# Altium integrated library Texas Instruments Interface 1394.IntLib: 47 symbols (part 16 of 17)
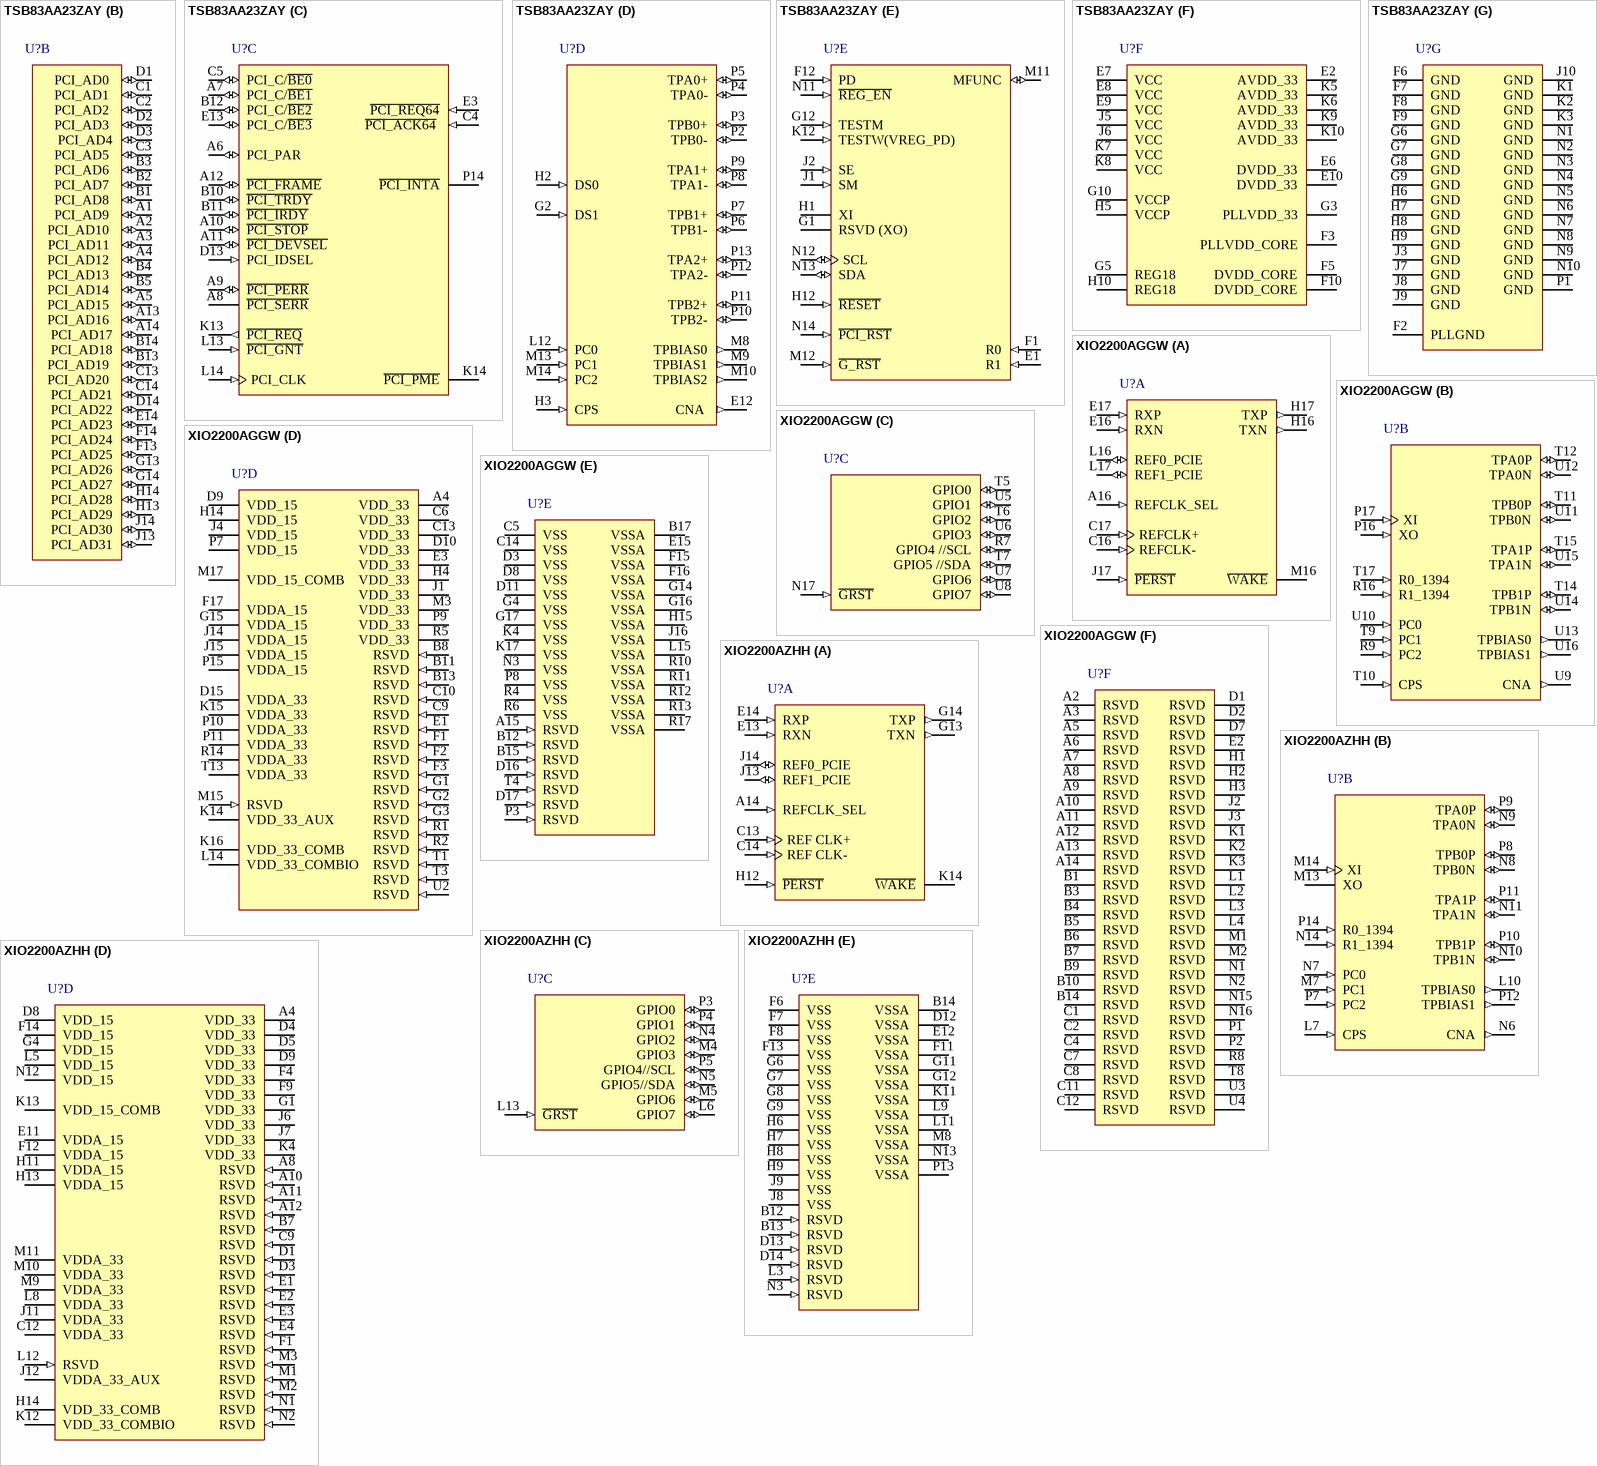
[diagram p26: symbols TSB83AA23ZAY to XIO2200AZHH]

## XIO2200AGGW
designator U?
PCI Express to PCI Bus Translation Bridge with 1394a OHCI and Two-Port PHY, 176-Pin BGA MICROSTAR (GGW); PartNumber: XIO2200AGGW; Manufacturer: Texas Instruments; SubFamily: 1394 Integrated Device; Speed(Max)(Mbps): 400; FIFO(kb): 9; 1394a: TRUE; Rating: Catalog; DatasheetVersion: SCPS154C; PackageVersion: revE, Jul-2003; PackageReference: GGW176; PackageDescription: 176-Ball Plastic Ball Grid Array, 15 x 15 mm Body, 0.8 mm Pitch; Mounting Technology: Surface Mount; ComponentLink1Description: Datasheet; ComponentLink1URL: http://www.ti.com/general/docs/lit/getliterature.tsp?genericPartNumber=XIO2200A&fileType=pdf; ComponentLink2Description: Package Specification; ComponentLink2URL: http://www.ti.com/litv/pdf/mpbg026e
footprint TI-GGW176 (BGA, 176-Leads, Body 15x15mm, Pitch 0.8mm)
part A pins: A16 REFCLK_SEL (in) "Reference clock select. This terminal selects the reference clock input. 0 = 100-MHz differential common reference clock used ,1 = 125-MHz single-ended reference clock used", C16 REFCLK- (in) "Reference clock. REFCLK+ and REFCLK- comprise the differential input pair for the 100-MHz system reference clock. [see datasheet]", C17 REFCLK+ (in) "Reference clock. REFCLK+ and REFCLK- comprise the differential input pair for the 100-MHz system reference clock. [see datasheet]", E16 RXN (in) "High-speed receive pair. RXP and RXN comprise the differential receive pair for the single PCI Express lane supported.", E17 RXP (in) "High-speed receive pair. RXP and RXN comprise the differential receive pair for the single PCI Express lane supported.", H16 TXN (out) "High-speed transmit pair. TXP and TXN comprise the differential transmit pair for the single PCI Express lane supported.", H17 TXP (out) "High-speed transmit pair. TXP and TXN comprise the differential transmit pair for the single PCI Express lane supported.", J17 ~{PERST} (in) "PCI Express reset input. The P\E\R\S\T\ signal identifies when the system power is stable and generates an internal power-on reset.Note: The P\E\R\S\T\ input buffer has hysteresis.", L16 REF0_PCIE (io) "External reference resistor + and - terminals for setting TX driver current. An external resistor is connected between terminals L16 and L17.", L17 REF1_PCIE (io) "External reference resistor + and - terminals for setting TX driver current. An external resistor is connected between terminals L16 and L17.", M16 ~{WAKE} (oc) "Wake is an active low signal that is driven low to reactivate the PCI Express link hierarchy’s main power rails and reference clocks. [see datasheet]"
part B pins: P16 XO (in) "Crystal oscillator inputs. These terminals connect to a 24.576-MHz parallel resonant fundamental mode crystal. [see datasheet]", P17 XI (in) "Crystal oscillator inputs. These terminals connect to a 24.576-MHz parallel resonant fundamental mode crystal. [see datasheet]", R9 PC2 (in) "Power class programming inputs.  On hardware reset, these inputs set the default value of the power class indicated during self-ID. [see datasheet]", R16 R1_1394 (in) "Current-setting resistor terminals. These terminals are connected to an external resistance to set the internal operating currents and cable driver output currents.A resistance of 6. [see datasheet]", T9 PC1 (in) "Power class programming inputs. On hardware reset, these inputs set the default value of the power class indicated during self-ID. [see datasheet]", T10 CPS (in) "Cable power status input.  This terminal is normally connected to cable power through a 400-kohm resistor. [see datasheet]", T11 TPB0P (io) "Twisted-pair cable B differential signal terminals. [see datasheet]", T12 TPA0P (io) "Twisted-pair cable A differential signal terminals. [see datasheet]", T14 TPB1P (io) "Twisted-pair cable B differential signal terminals. [see datasheet]", T15 TPA1P (io) "Twisted-pair cable A differential signal terminals. [see datasheet]", T17 R0_1394 (in) "Current-setting resistor terminals. These terminals are connected to an external resistance to set the internal operating currents and cable driver output currents. A resistance of 6. [see datasheet]", U9 CNA (out) "Cable not active. This terminal is asserted high when there are no ports receiving incoming bias voltage. [see datasheet]", U10 PC0 (in) "Power class programming inputs. On hardware reset, these inputs set the default value of the power class indicated during self-ID. [see datasheet]", U11 TPB0N (io) "Twisted-pair cable B differential signal terminals. [see datasheet]", U12 TPA0N (io) "Twisted-pair cable A differential signal terminals. [see datasheet]", U13 TPBIAS0 (out) "Twisted-pair bias output. This provides the 1. [see datasheet]", U14 TPB1N (io) "Twisted-pair cable B differential signal terminals. [see datasheet]", U15 TPA1N (io) "Twisted-pair cable A differential signal terminals. [see datasheet]", U16 TPBIAS1 (out) "Twisted-pair bias output. This provides the 1. [see datasheet]"
part C pins: N17 ~{GRST} (in) "Global reset input. Asynchronously resets all logic in device, including sticky bits and power management state machines. [see datasheet]", R7 GPIO4 //SCL (io) "GPIO4 or serial-bus clock. This terminal functions as serial-bus clock if a pullup resistor is detected on SDA. [see datasheet]", T5 GPIO0 (io) "General-purpose I/O 0. This terminal functions as a GPIO controlled by bit 0 (GPIO0_DIR) in the GPIO control register (see Section 4.59). [see datasheet]", T6 GPIO2 (io) "General-purpose I/O 2. This terminal functions as a GPIO controlled by bit 2 (GPIO2_DIR) in the GPIO control register (see Section 4.59). [see datasheet]", T7 GPIO5 //SDA (io) "GPIO5 or serial-bus data. This terminal functions as serial-bus data if a pullup resistor is detected on SDA. [see datasheet]", U5 GPIO1 (io) "General-purpose I/O 1. This terminal functions as a GPIO controlled by bit 1 (GPIO1_DIR) in the GPIO control register (see Section 4.59). [see datasheet]", U6 GPIO3 (io) "General-purpose I/O 3. This terminal functions as a GPIO controlled by bit 3 (GPIO3_DIR) in the GPIO control register (see Section 4.59). [see datasheet]", U7 GPIO6 (io) "General-purpose I/O 6. This terminal functions as a GPIO controlled by bit 6 (GPIO6_DIR) in the GPIO control register (see Section 4.59). [see datasheet]", U8 GPIO7 (io) "General-purpose I/O 7. This terminal functions as a GPIO controlled by bit 7 (GPIO7_DIR) in the GPIO control register (see Section 4.59). [see datasheet]"
part D pins: A4 VDD_33 (power) "3.3-V digital I/O power terminals", B8 RSVD (in) "Must be connected to VDD_33.", B11 RSVD (in) "Must be connected to VDD_33.", B13 RSVD (in) "Must be connected to VDD_33.", C6 VDD_33 (power) "3.3-V digital I/O power terminals", C9 RSVD (in) "Must be connected to VDD_33", C10 RSVD (in) "Must be connected to VDD_33", C13 VDD_33 (power) "3.3-V digital I/O power terminals", D9 VDD_15  (power) "1.5-V digital core power terminals", D10 VDD_33 (power) "3.3-V digital I/O power terminals", D15 VDDA_33 (power) "3.3-V analog power terminals", E1 RSVD (in) "Must be connected to VDD_33", E3 VDD_33 (power) "3.3-V digital I/O power terminals", F1 RSVD (in) "Must be connected to VDD_33", F2 RSVD (in) "Must be connected to VDD_33", F3 RSVD (in) "Must be connected to VDD_33", F17 VDDA_15 (power) "1.5-V analog power terminal", G1 RSVD (in) "Must be connected to VDD_33", G2 RSVD (in) "Must be connected to VDD_33", G3 RSVD (in) "Must be connected to VDD_33", G15 VDDA_15 (power) "1.5-V analog power terminal", H4 VDD_33 (power) "3.3-V digital I/O power terminals", H14 VDD_15 (power) "1.5-V digital core power terminals", J1 VDD_33 (power) "3.3-V digital I/O power terminals", J4 VDD_15 (power) "1.5-V digital core power terminals", J14 VDDA_15 (power) "1.5-V analog power terminal", J15 VDDA_15 (power) "1.5-V analog power terminal", K14 VDD_33_AUX (power) "3.3-V auxiliary power terminalNote: This terminal is connected to VSS through a pulldown resistor if no auxiliary supply is present.", K15 VDDA_33 (power) "3.3-V analog power terminals", K16 VDD_33_COMB (power) "Internally-combined 3.3-V main and VAUX power output for external bypass capacitor filtering. Supplies all internal 3.3-V circuitry powered by VAUX. [see datasheet]", L14 VDD_33_COMBIO (power) "Internally-combined 3.3-V main and VAUX power output for external bypass capacitor filtering. Supplies all internal 3.3-V input/output circuitry powered by VAUX. [see datasheet]", M3 VDD_33 (power) "3.3-V digital I/O power terminals", M15 RSVD (in) "If the VAUX supply is present, connect this terminal to VDD_33_AUX.If the VAUX supply is not present, connect this terminal to VDD_33.", M17 VDD_15_COMB (power) "Internally-combined 1.5-V main and VAUX power output for external bypass capacitor filtering. Supplies all internal 1.5-V circuitry powered by VAUX. [see datasheet]", P7 VDD_15 (power) "1.5-V digital core power terminals", P9 VDD_33 (power) "3.3-V digital I/O power terminals", P10 VDDA_33 (power) "3.3-V analog power terminals", P11 VDDA_33 (power) "3.3-V analog power terminals", P15 VDDA_15 (power) "1.5-V analog power terminal", R1 RSVD (in) "Must be connected to VDD_33", R2 RSVD (in) "Must be connected to VDD_33", R5 VDD_33 (power) "3.3-V digital I/O power terminals", R14 VDDA_33 (power) "3.3-V analog power terminals", T1 RSVD (in) "Must be connected to VDD_33", T3 RSVD (in) "Must be connected to VDD_33", T13 VDDA_33 (power) "3.3-V analog power terminals", U2 RSVD (in) "Must be connected to VDD_33"
part E pins: A15 RSVD (in) "Must be connected to VSS", B12 RSVD (in) "Must be connected to VDD_33.", B15 RSVD (in) "Must be connected to VSS", B17 VSSA (power) "Analog ground terminal.", C5 VSS (power) "Digital ground terminals", C14 VSS (power) "Digital ground terminals", D3 VSS (power) "Digital ground terminals", D8 VSS  (power) "Digital ground terminals", D11 VSS (power) "Digital ground terminals", D16 RSVD (in) "Must be connected to VSS", D17 RSVD (in) "Must be connected to VSS", E15 VSSA (power) "Analog ground terminal.", F15 VSSA (power) "Analog ground terminal.", F16 VSSA (power) "Analog ground terminal.", G4 VSS (power) "Digital ground terminals", G14 VSSA (power) "Analog ground terminal.", G16 VSSA (power) "Analog ground terminal.", G17 VSS (power) "Digital ground terminals", H15 VSSA (power) "Analog ground terminal.", J16 VSSA (power) "Analog ground terminal.", K4 VSS (power) "Digital ground terminals", K17 VSS (power) "Digital ground terminals", L15 VSSA (power) "Analog ground terminal.", N3 VSS (power) "Digital ground terminals", P3 RSVD (in) "Must be connected to VSS", P8 VSS (power) "Digital ground terminals", R4 VSS (power) "Digital ground terminals", R6 VSS (power) "Digital ground terminals", R10 VSSA (power) "Analog ground terminal.", R11 VSSA (power) "Analog ground terminal.", R12 VSSA (power) "Analog ground terminal.", R13 VSSA (power) "Analog ground terminal.", R17 VSSA (power) "Analog ground terminal.", T4 RSVD (in) "Must be connected to VSS"
part F pins: A2 RSVD "Reserved, do not connect to external signals.", A3 RSVD "Reserved, do not connect to external signals.", A5 RSVD "Reserved, do not connect to external signals.", A6 RSVD "Reserved, do not connect to external signals.", A7 RSVD "Reserved, do not connect to external signals.", A8 RSVD "Reserved, do not connect to external signals.", A9 RSVD "Reserved, do not connect to external signals.", A10 RSVD "Reserved, do not connect to external signals.", A11 RSVD "Reserved, do not connect to external signals.", A12 RSVD "Reserved, do not connect to external signals.", A13 RSVD "Reserved, do not connect to external signals.", A14 RSVD "Reserved, do not connect to external signals.", B1 RSVD "Reserved, do not connect to external signals.", B3 RSVD "Reserved, do not connect to external signals.", B4 RSVD "Reserved, do not connect to external signals.", B5 RSVD "Reserved, do not connect to external signals.", B6 RSVD "Reserved, do not connect to external signals.", B7 RSVD "Reserved, do not connect to external signals.", B9 RSVD "Reserved, do not connect to external signals.", B10 RSVD "Reserved, do not connect to external signals.", B14 RSVD "Reserved, do not connect to external signals.", C1 RSVD "Reserved, do not connect to external signals.", C2 RSVD "Reserved, do not connect to external signals.", C4 RSVD "Reserved, do not connect to external signals.", C7 RSVD "Reserved, do not connect to external signals.", C8 RSVD "Reserved, do not connect to external signals.", C11 RSVD "Reserved, do not connect to external signals.", C12 RSVD "Reserved, do not connect to external signals.", D1 RSVD "Reserved, do not connect to external signals.", D2 RSVD "Reserved, do not connect to external signals.", D7 RSVD "Reserved, do not connect to external signals.", E2 RSVD "Reserved, do not connect to external signals.", H1 RSVD "Reserved, do not connect to external signals.", H2 RSVD "Reserved, do not connect to external signals.", H3 RSVD "Reserved, do not connect to external signals.", J2 RSVD "Reserved, do not connect to external signals.", J3 RSVD "Reserved, do not connect to external signals.", K1 RSVD "Reserved, do not connect to external signals.", K2 RSVD "Reserved, do not connect to external signals.", K3 RSVD "Reserved, do not connect to external signals.", L1 RSVD "Reserved, do not connect to external signals.", L2 RSVD "Reserved, do not connect to external signals.", L3 RSVD "Reserved, do not connect to external signals.", L4 RSVD "Reserved, do not connect to external signals.", M1 RSVD "Reserved, do not connect to external signals.", M2 RSVD "Reserved, do not connect to external signals.", N1 RSVD "Reserved, do not connect to external signals.", N2 RSVD "Reserved, do not connect to external signals.", N15 RSVD "Reserved, do not connect to external signals.", N16 RSVD "Reserved, do not connect to external signals.", P1 RSVD "Reserved, do not connect to external signals.", P2 RSVD "Reserved, do not connect to external signals.", R8 RSVD "Reserved, do not connect to external signals.", T8 RSVD "Reserved, do not connect to external signals.", U3 RSVD "Reserved, do not connect to external signals.", U4 RSVD "Reserved, do not connect to external signals."

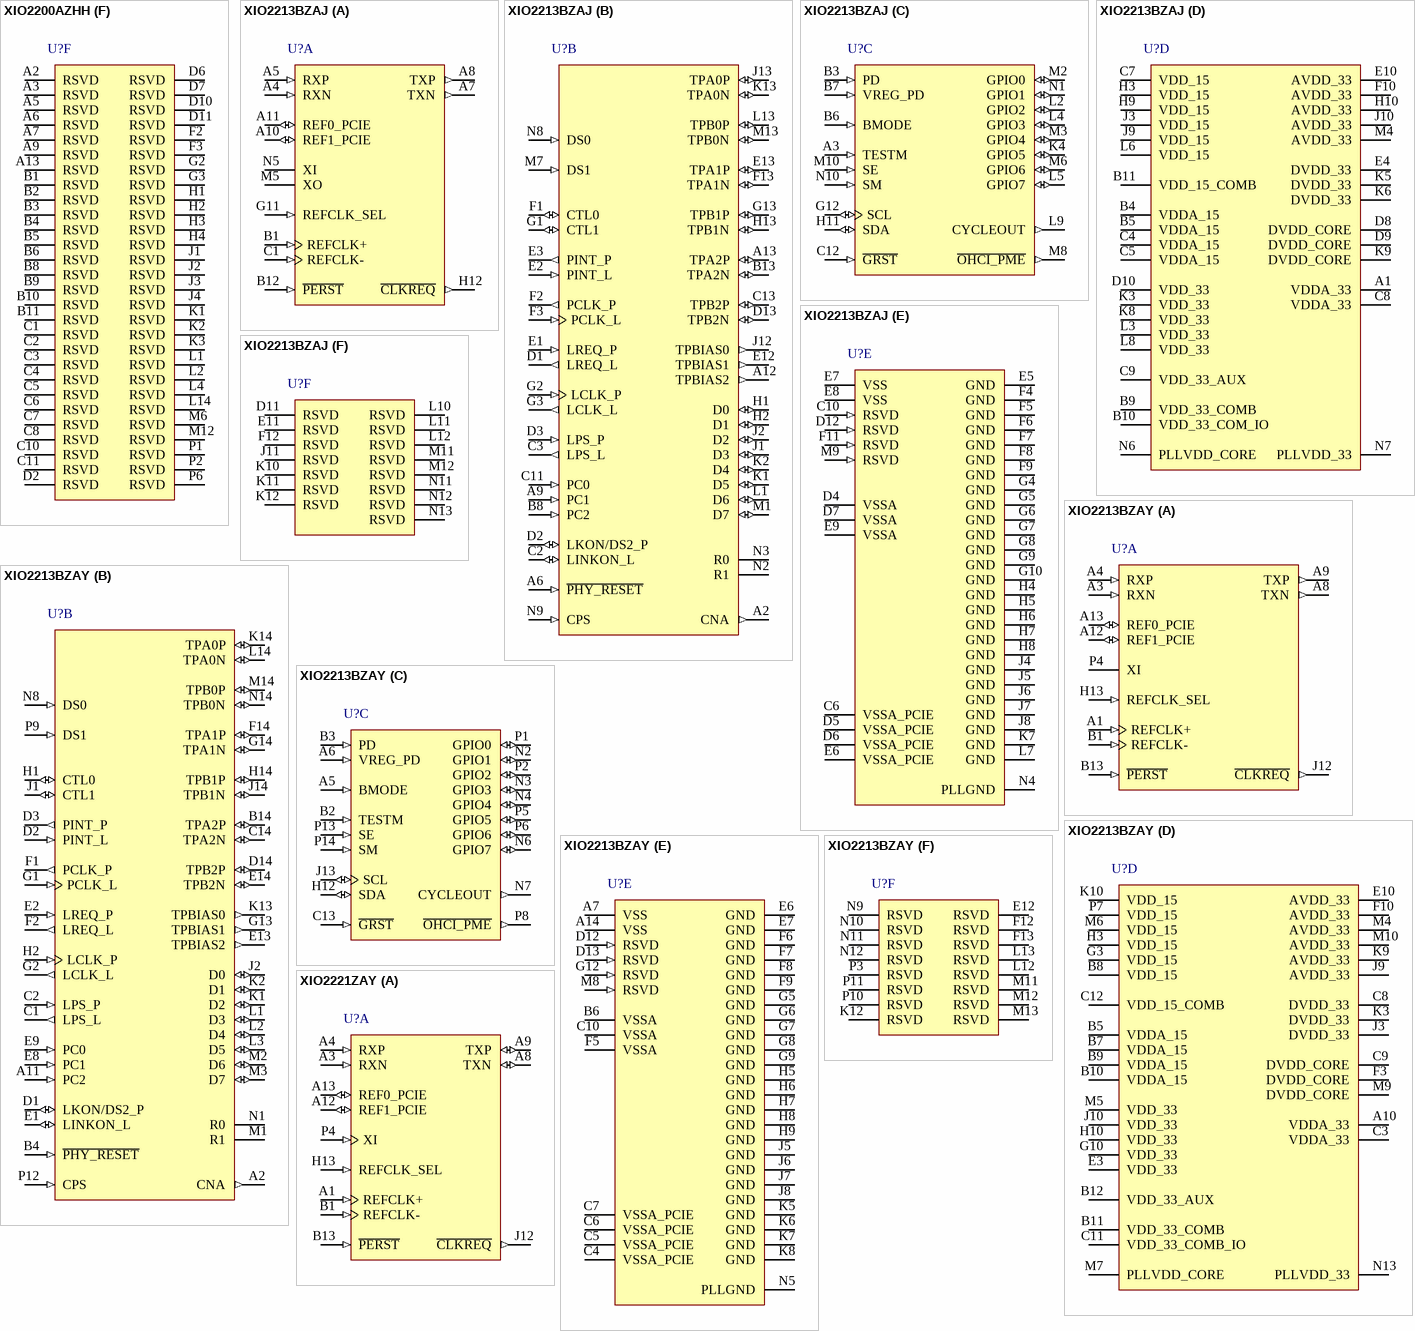
[diagram p10: symbols XIO2200AZHH to XIO2221ZAY]

## XIO2200AZHH
designator U?
PCI Express to PCI Bus Translation Bridge with 1394a OHCI and Two-Port PHY, 175-Pin BGA MICROSTAR (ZHH), Green (RoHS & no Sb/Br); PartNumber: XIO2200AZHH; Manufacturer: Texas Instruments; SubFamily: 1394 Integrated Device; Speed(Max)(Mbps): 400; FIFO(kb): 9; 1394a: TRUE; Rating: Catalog; DatasheetVersion: SCPS154C; PackageVersion: revE, Feb-2011; PackageReference: ZHH175; PackageDescription: 175-Ball Plastic Ball Grid Array, 12 x 12 mm Body, 0.8 mm Pitch; Mounting Technology: Surface Mount; ComponentLink1Description: Datasheet; ComponentLink1URL: http://www.ti.com/general/docs/lit/getliterature.tsp?genericPartNumber=XIO2200A&fileType=pdf; ComponentLink2Description: Package Specification; ComponentLink2URL: http://www.ti.com/litv/pdf/mpbg758b
footprint TI-ZHH175 (BGA, 175-Leads, Body 12x12mm, Pitch 0.8mm)
part A pins: A14 REFCLK_SEL (in) "Reference clock select.This terminal selects the reference clock input. 0 = 100-MHz differential common reference clock used 1 = 125-MHz single-ended reference clock used", C13 REF CLK+ (in) "Reference clock.REFCLK+ and REFCLK- comprise the differential input pair for the 100-MHz system reference clock. [see datasheet]", C14 REF CLK- (in) "Reference clock.REFCLK+ and REFCLK- comprise the differential input pair for the 100-MHz system reference clock. [see datasheet]", E13 RXN (in) "High-speed receive pair. RXP and RXN comprise the differential receive pair for the single PCI Express lane supported.", E14 RXP (in) "High-speed receive pair. RXP and RXN comprise the differential receive pair for the single PCI Express lane supported.", G13 TXN (out) "High-speed transmit pair. TXP and TXN comprise the differential transmit pair for the single PCI Express lane supported.", G14 TXP (out) "High-speed transmit pair. TXP and TXN comprise the differential transmit pair for the single PCI Express lane supported.", H12 ~{PERST} (in) "PCI Express reset input. The PERST signal identifies when the system power is stable and generates an internal power-on reset. Note: The P\E\R\S\T\ input buffer has hysteresis.", J13 REF1_PCIE (io) "External reference resistor + and - terminals for setting TX driver current. An external resistor is connected between terminals L16 and L17.", J14 REF0_PCIE (io) "External reference resistor + and - terminals for setting TX driver current. An external resistor is connected between terminals L16 and L17.", K14 ~{WAKE} (oc) "Wake is an active low signal that is driven low toreactivate the PCI Express link hierarchy’s main power rails and reference clocks."
part B pins: L7 CPS (in) "Cable power status input. This terminal is normally connected to cable power through a 400-kohm resistor. [see datasheet]", L10 TPBIAS0 (out) "Twisted-pair bias output. This provides the 1. [see datasheet]", M7 PC1 (in) "Power class programming inputs. On hardware reset, these inputs set the default value of the power class indicated during self-ID. [see datasheet]", M13 XO "Crystal oscillator inputs. These terminals connect to a 24.576-MHz parallel resonant fundamental mode crystal. [see datasheet]", M14 XI (in) "Crystal oscillator inputs. These terminals connect to a 24.576-MHz parallel resonant fundamental mode crystal. [see datasheet]", N6 CNA (out) "Cable not active. This terminal is asserted high when there are no ports receiving incoming bias voltage. [see datasheet]", N7 PC0 (in) "Power class programming inputs. On hardware reset, these inputs set the default value of the power class indicated during self-ID. [see datasheet]", N8 TPB0N (io) "Twisted-pair cable B differential signal terminals. [see datasheet]", N9 TPA0N (io) "Twisted-pair cable A differential signal terminals. [see datasheet]", N10 TPB1N (io) "Twisted-pair cable B differential signal terminals. [see datasheet]", N11 TPA1N (io) "Twisted-pair cable A differential signal terminals. [see datasheet]", N14 R1_1394 (in) "Current-setting resistor terminals. These terminals are connected to an external resistance to set the internal operating currents and cable driver output currents. A resistance of 6. [see datasheet]", P7 PC2 (in) "Power class programming inputs. On hardware reset, these inputs set the default value of the power class indicated during self-ID. [see datasheet]", P8 TPB0P (io) "Twisted-pair cable B differential signal terminals. [see datasheet]", P9 TPA0P (io) "Twisted-pair cable A differential signal terminals. [see datasheet]", P10 TPB1P (io) "Twisted-pair cable B differential signal terminals. [see datasheet]", P11 TPA1P (io) "Twisted-pair cable A differential signal terminals. [see datasheet]", P12 TPBIAS1 (out) "Twisted-pair bias output. This provides the 1. [see datasheet]", P14 R0_1394 (in) "Current-setting resistor terminals. These terminals are connected to an external resistance to set the internal operating currents and cable driver output currents. A resistance of 6. [see datasheet]"
part C pins: L6 GPIO7 (io) "General-purpose I/O 7. This terminal functions as a GPIO controlled by bit 7 (GPIO7_DIR) in the GPIO control register (see Section 4.59). [see datasheet]", L13 ~{GRST} (in) "Global reset input. Asynchronously resets all logic in device, including sticky bits and power management state machines. [see datasheet]", M4 GPIO3 (io) "General-purpose I/O 3. This terminal functions as a GPIO controlled by bit 3 (GPIO3_DIR) in the GPIO control register (see Section 4.59). [see datasheet]", M5 GPIO6 (io) "General-purpose I/O 6. This terminal functions as a GPIO controlled by bit 6 (GPIO6_DIR) in the GPIO control register (see Section 4.59). [see datasheet]", N4 GPIO2 (io) "General-purpose I/O 2. This terminal functions as a GPIO controlled by bit 2 (GPIO2_DIR) in the GPIO control register (see Section 4.59). [see datasheet]", N5 GPIO5//SDA (io) "GPIO5 or serial-bus data. This terminal functions as serial-bus data if a pullup resistor is detected on SDA. [see datasheet]", P3 GPIO0 (io) "General-purpose I/O 0. This terminal functions as a GPIO controlled by bit 0 (GPIO0_DIR) in the GPIO control register (see Section 4.59). [see datasheet]", P4 GPIO1 (io) "General-purpose I/O 1. This terminal functions as a GPIO controlled by bit 1 (GPIO1_DIR) in the GPIO control register (see Section 4.59). [see datasheet]", P5 GPIO4//SCL (io) "GPIO4 or serial-bus clock. This terminal functions as serial-bus clock if a pullup resistor is detected on SDA. [see datasheet]"
part D pins: A4 VDD_33 (power) "3.3-V digital I/O power terminals", A8 RSVD (in) "Must be connected to VDD_33.", A10 RSVD (in) "Must be connected to VDD_33.", A11 RSVD (in) "Must be connected to VDD_33.", A12 RSVD (in) "Must be connected to VDD_33.", B7 RSVD (in) "Must be connected to VDD_33.", C9 RSVD (in) "Must be connected to VDD_33.", C12 VDDA_33 (power) "3.3-V analog power terminals", D1 RSVD (in) "Must be connected to VDD_33.", D3 RSVD (in) "Must be connected to VDD_33.", D4 VDD_33 (power) "3.3-V digital I/O power terminals", D5 VDD_33 (power) "3.3-V digital I/O power terminals", D8 VDD_15 (power) "1.5-V digital core power terminals", D9 VDD_33 (power) "3.3-V digital I/O power terminals", E1 RSVD (in) "Must be connected to VDD_33.", E2 RSVD (in) "Must be connected to VDD_33.", E3 RSVD (in) "Must be connected to VDD_33.", E4 RSVD (in) "Must be connected to VDD_33.", E11 VDDA_15 (power) "1.5-V analog power terminal", F1 RSVD (in) "Must be connected to VDD_33.", F4 VDD_33 (power) "3.3-V digital I/O power terminals", F9 VDD_33 (power) "3.3-V digital I/O power terminals", F12 VDDA_15 (power) "1.5-V analog power terminal", F14 VDD_15 (power) "1.5-V digital core power terminals", G1 VDD_33 (power) "3.3-V digital I/O power terminals", G4 VDD_15 (power) "1.5-V digital core power terminals", H11 VDDA_15 (power) "1.5-V analog power terminal", H13 VDDA_15 (power) "1.5-V analog power terminal", H14 VDD_33_COMB "Internally-combined 3.3-V main and VAUX power output for external bypass capacitor filtering. Supplies all internal 3.3-V circuitry powered by VAUX. [see datasheet]", J6 VDD_33 (power) "3.3-V digital I/O power terminals", J7 VDD_33 (power) "3.3-V digital I/O power terminals", J11 VDDA_33 (power) "3.3-V analog power terminals", J12 VDDA_33_AUX (power) "3.3-V auxiliary power terminal", K4 VDD_33 (power) "3.3-V digital I/O power terminals", K12 VDD_33_COMBIO "Internally-combined 3.3-V main and VAUX power output for external bypass capacitor filtering. Supplies all internal 3.3-V input/output circuitry powered by VAUX. [see datasheet]", K13 VDD_15_COMB "Internally-combined 1.5-V main and VAUX power output for external bypass capacitor filtering. Supplies all internal 1.5-V circuitry powered by VAUX. [see datasheet]", L5 VDD_15 (power) "1.5-V digital core power terminals", L8 VDDA_33 (power) "3.3-V analog power terminals", L12 RSVD (in) "If the VAUX supply is present, connect this terminal to VDD_33_AUX. If the VAUX supply is not present, connect this terminal to VDD_33.", M1 RSVD (in) "Must be connected to VDD_33.", M2 RSVD (in) "Must be connected to VDD_33.", M3 RSVD (in) "Must be connected to VDD_33.", M9 VDDA_33 (power) "3.3-V analog power terminals", M10 VDDA_33 (power) "3.3-V analog power terminals", M11 VDDA_33 (power) "3.3-V analog power terminals", N1 RSVD (in) "Must be connected to VDD_33.", N2 RSVD (in) "Must be connected to VDD_33.", N12 VDD_15 (power) "1.5-V analog power terminal"
part E pins: B12 RSVD (in) "Must be connected to VSS.", B13 RSVD (in) "Must be connected to VSS.", B14 VSSA (power) "Analog ground terminals", D12 VSSA (power) "Analog ground terminals", D13 RSVD (in) "Must be connected to VSS.", D14 RSVD (in) "Must be connected to VSS.", E12 VSSA (power) "Analog ground terminals", F6 VSS (power) "Digital ground terminals", F7 VSS (power) "Digital ground terminals", F8 VSS (power) "Digital ground terminals", F11 VSSA (power) "Analog ground terminals", F13 VSS (power) "Digital ground terminals", G6 VSS (power) "Digital ground terminals", G7 VSS (power) "Digital ground terminals", G8 VSS (power) "Digital ground terminals", G9 VSS (power) "Digital ground terminals", G11 VSSA (power) "Analog ground terminals", G12 VSSA (power) "Analog ground terminals", H6 VSS (power) "Digital ground terminals", H7 VSS (power) "Digital ground terminals", H8 VSS (power) "Digital ground terminals", H9 VSS (power) "Digital ground terminals", J8 VSS (power) "Digital ground terminals", J9 VSS (power) "Digital ground terminals", K11 VSSA (power) "Analog ground terminals", L3 RSVD (in) "Must be connected to VSS.", L9 VSSA (power) "Analog ground terminals", L11 VSSA (power) "Analog ground terminals", M8 VSSA (power) "Analog ground terminals", N3 RSVD (in) "Must be connected to VSS.", N13 VSSA (power) "Analog ground terminals", P13 VSSA (power) "Analog ground terminals"
part F pins: A2 RSVD "Reserved, do not connect to external signals.", A3 RSVD "Reserved, do not connect to external signals.", A5 RSVD "Reserved, do not connect to external signals.", A6 RSVD "Reserved, do not connect to external signals.", A7 RSVD "Reserved, do not connect to external signals.", A9 RSVD "Reserved, do not connect to external signals.", A13 RSVD "Reserved, do not connect to external signals.", B1 RSVD "Reserved, do not connect to external signals.", B2 RSVD "Reserved, do not connect to external signals.", B3 RSVD "Reserved, do not connect to external signals.", B4 RSVD "Reserved, do not connect to external signals.", B5 RSVD "Reserved, do not connect to external signals.", B6 RSVD "Reserved, do not connect to external signals.", B8 RSVD "Reserved, do not connect to external signals.", B9 RSVD "Reserved, do not connect to external signals.", B10 RSVD "Reserved, do not connect to external signals.", B11 RSVD "Reserved, do not connect to external signals.", C1 RSVD "Reserved, do not connect to external signals.", C2 RSVD "Reserved, do not connect to external signals.", C3 RSVD "Reserved, do not connect to external signals.", C4 RSVD "Reserved, do not connect to external signals.", C5 RSVD "Reserved, do not connect to external signals.", C6 RSVD "Reserved, do not connect to external signals.", C7 RSVD "Reserved, do not connect to external signals.", C8 RSVD "Reserved, do not connect to external signals.", C10 RSVD "Reserved, do not connect to external signals.", C11 RSVD "Reserved, do not connect to external signals.", D2 RSVD "Reserved, do not connect to external signals.", D6 RSVD "Reserved, do not connect to external signals.", D7 RSVD "Reserved, do not connect to external signals.", D10 RSVD "Reserved, do not connect to external signals.", D11 RSVD "Reserved, do not connect to external signals.", F2 RSVD "Reserved, do not connect to external signals.", F3 RSVD "Reserved, do not connect to external signals.", G2 RSVD "Reserved, do not connect to external signals.", G3 RSVD "Reserved, do not connect to external signals.", H1 RSVD "Reserved, do not connect to external signals.", H2 RSVD "Reserved, do not connect to external signals.", H3 RSVD "Reserved, do not connect to external signals.", H4 RSVD "Reserved, do not connect to external signals.", J1 RSVD "Reserved, do not connect to external signals.", J2 RSVD "Reserved, do not connect to external signals.", J3 RSVD "Reserved, do not connect to external signals.", J4 RSVD "Reserved, do not connect to external signals.", K1 RSVD "Reserved, do not connect to external signals.", K2 RSVD "Reserved, do not connect to external signals.", K3 RSVD "Reserved, do not connect to external signals.", L1 RSVD "Reserved, do not connect to external signals.", L2 RSVD "Reserved, do not connect to external signals.", L4 RSVD "Reserved, do not connect to external signals.", L14 RSVD "Reserved, do not connect to external signals.", M6 RSVD "Reserved, do not connect to external signals.", M12 RSVD "Reserved, do not connect to external signals.", P1 RSVD "Reserved, do not connect to external signals.", P2 RSVD "Reserved, do not connect to external signals.", P6 RSVD "Reserved, do not connect to external signals."

## XIO2213BZAJ
designator U?
PCI Express to 1394b OHCI with 3-Port PHY, 0 to 70 degC, 168-Pin NFBGA (ZAJ), Green (RoHS & no Sb/Br); PartNumber: XIO2213BZAJ; Manufacturer: Texas Instruments; SubFamily: 1394 Integrated Device; Speed(Max)(Mbps): 800; FIFO(kb): 8; DatasheetVersion: SCPS210D; PackageVersion: revD, Aug-2008; PackageReference: ZAJ168; PackageDescription: 168-Ball Plastic Ball Grid Array, 7 x 7 mm Body, 0.5 mm Pitch; Mounting Technology: Surface Mount; ComponentLink1Description: Datasheet; ComponentLink1URL: http://www.ti.com/general/docs/lit/getliterature.tsp?genericPartNumber=XIO2213B&fileType=pdf; ComponentLink2Description: Package Specification; ComponentLink2URL: http://www.ti.com/litv/pdf/mpbg703c
footprint TI-ZAJ168 (BGA, 168-Leads, Body 7x7mm, Pitch 0.5mm)
part A pins: A4 RXN (in) "High-speed receive pair. RXP and RXN comprise the differential receive pair for the single PCIe lane supported.", A5 RXP (in) "High-speed receive pair. RXP and RXN comprise the differential receive pair for the single PCIe lane supported.", A7 TXN (out) "High-speed transmit pair. TXP and TXN comprise the differential transmit pair for the single PCIe lane supported.", A8 TXP (out) "High-speed transmit pair. TXP and TXN comprise the differential transmit pair for the single PCIe lane supported.", A10 REF1_PCIE (io) "External reference resistor + and terminals for setting TX driver current.An external resistor is connected between terminals REF0_PCIE and REF1_PCIE.", A11 REF0_PCIE (io) "External reference resistor + and terminals for setting TX driver current.An external resistor is connected between terminals REF0_PCIE and REF1_PCIE.", B1 REFCLK+ (in) "Reference clock positive. REFCLK+ and REFCLK- comprise the differential input pair for the 100-MHz system reference clock. [see datasheet]", B12 ~{PERST} (in) "PCI Express reset. PERST identifies when the system power is stable and generates an internal power-on reset. Note: The PERST input buffer has hysteresis.", C1 REFCLK- (in) "Reference clock negative.REFCLK+ and REFCLK- comprise the differential input pair for the 100-MHz system reference clock. [see datasheet]", G11 REFCLK_SEL (in) "Reference clock select. This terminal selects the reference clock input. 0 = 100-MHz differential common reference clock used 1 = 125-MHz single-ended reference clock used", H12 ~{CLKREQ} (out) "Clock request. This terminal is used to support the clock request protocol.", M5 XO "Reserved, do not connect to external signals.", N5 XI "Oscillator input. This terminal connects to a 98.304-MHz low-jitter external oscillator. XI is a 1.8-V CMOS input. Oscillator jitter must be 5-ps RMS or better. If only 3. [see datasheet]"
part B pins: A2 CNA (out) "Cable not active. This terminal is asserted high when there are no ports receiving incoming bias voltage. If it is not used, this terminal should be left unconnected.", A6 ~{PHY_RESET} (in) "Reset for the 1394 PHY logic", A9 PC1 (in) "Power-class programming. On hardware reset, these inputs set the default value of PC1 E08 A09 the power class indicated during self-ID. [see datasheet]", A12 TPBIAS2 (out) "Twisted-pair bias. These terminals provide the 1. [see datasheet]", A13 TPA2P (io) "Port 2 twisted-pair cable A differential. [see datasheet]", B8 PC2 (in) "Power-class programming.On hardware reset, these inputs set the default value of the power class indicated during self-ID. [see datasheet]", B13 TPA2N (io) "Port 2 twisted-pair cable A differential. [see datasheet]", C2 LINKON_L (io) "Link-on notification. [see datasheet]", C3 LPS_L (out) "LLC-section power status. This terminal must be connected to the LPS_P input terminal of the PHY section.", C11 PC0 (in) "Power-class programming.On hardware reset, these inputs set the default value of the power class indicated during self-ID. [see datasheet]", C13 TPB2P (io) "Port 2 twisted-pair cable A differential. [see datasheet]", D1 LREQ_L (out) "LLC-section request. The LLC section uses this output to initiate a service request to the PHY section.This terminal must be connected to the LREQ_P input of the PHY section.", D2 LKON/DS2_P (io) "Link-on notification. If port is to operate in DS mode or is unused then it is necessary to pull the terminal high through a 470-ohm or smaller resistor. [see datasheet]", D3 LPS_P (in) "Link power status. This terminal must be connected to the LPS_L ouput terminal of the LLC section.", D13 TPB2N (io) "Port 2 twisted-pair cable A differential. [see datasheet]", E1 LREQ_P (in) "LLC-section request. [see datasheet]", E2 PINT_L (in) "PHY-section interrupt. The PHY section uses this signal to transfer status and interrupt information serially to the LLC section. [see datasheet]", E3 PINT_P (out) "PHY-section interrupt. PINT_P is a serial input to the LLC section from the PHY section that is used to transfer status, register, interrupt, and other information to the link. [see datasheet]", E12 TPBIAS1 (out) "Twisted-pair bias. These terminals provide the 1. [see datasheet]", E13 TPA1P (io) "Port 1 twisted-pair cable A differential. [see datasheet]", F1 CTL0 (io) "Control. CTL[1:0] are bidirectional control bus signals that are used to indicate the phase of operation of the PHY link interface. [see datasheet]", F2 PCLK_P (out) "PHY-section clock. This terminal must be connected to the PCLK_L input of the LLC section.", F3 PCLK_L (in) "PHY-section clock. This terminal must be connected to the PCLK_P output of the PHY section.", F13 TPA1N (io) "Port 1 twisted-pair cable A differential. [see datasheet]", G1 CTL1 (io) "Control. CTL[1:0] are bidirectional control bus signals that are used to indicate the phase of operation of the PHY link interface. [see datasheet]", G2 LCLK_P (in) "LLC-section clock. This terminal must be connected to the LCLK_L output terminal of the LLC section.", G3 LCLK_L (out) "LLC-section clock. This terminal must be connected to the LCLK_P input terminal of the PHY section.", G13 TPB1P (io) "Port 1 twisted-pair cable A differential. [see datasheet]", H1 D0 (io) "Data. D[7:0] comprise a bidirectional data bus that is used to carry 1394 packet data, packet speed, and grant type information between the PHY and the link. [see datasheet]", H2 D1 (io) "Data. D[7:0] comprise a bidirectional data bus that is used to carry 1394 packet data, packet speed, and grant type information between the PHY and the link. [see datasheet]", H13 TPB1N (io) "Port 1 twisted-pair cable A differential. [see datasheet]", J1 D3 (io) "Data. D[7:0] comprise a bidirectional data bus that is used to carry 1394 packet data, packet speed, and grant type information between the PHY and the link. [see datasheet]", J2 D2 (io) "Data. D[7:0] comprise a bidirectional data bus that is used to carry 1394 packet data, packet speed, and grant type information between the PHY and the link. [see datasheet]", J12 TPBIAS0 (out) "Twisted-pair bias. These terminals provide the 1. [see datasheet]", J13 TPA0P (io) "Port 0 twisted-pair cable A differential. [see datasheet]", K1 D5 (io) "Data. D[7:0] comprise a bidirectional data bus that is used to carry 1394 packet data, packet speed, and grant type information between the PHY and the link. [see datasheet]", K2 D4 (io) "Data. D[7:0] comprise a bidirectional data bus that is used to carry 1394 packet data, packet speed, and grant type information between the PHY and the link. [see datasheet]", K13 TPA0N (io) "Port 0 twisted-pair cable A differential. [see datasheet]", L1 D6 (io) "Data. D[7:0] comprise a bidirectional data bus that is used to carry 1394 packet data, packet speed, and grant type information between the PHY and the link. [see datasheet]", L13 TPB0P (io) "Port 0 twisted-pair cable A differential. [see datasheet]", M1 D7 (io) "Data. D[7:0] comprise a bidirectional data bus that is used to carry 1394 packet data, packet speed, and grant type information between the PHY and the link. [see datasheet]", M7 DS1 (in) "Data-strobe-only mode for port 1. IEEE Std 1394a-2000-only port-1-enable programming terminal. [see datasheet]", M13 TPB0N (io) "Port 0 twisted-pair cable A differential. [see datasheet]", N2 R1 "Current-setting resistor. These terminals are connected to an external resistance to set the internal operating currents and cable driver output currents. A resistance of 6. [see datasheet]", N3 R0 "Current-setting resistor. These terminals are connected to an external resistance to set the internal operating currents and cable driver output currents. A resistance of 6. [see datasheet]", N8 DS0 (in) "Data-strobe-only mode for port 0. IEEE Std 1394a-2000-only port-0-enable programming terminal. [see datasheet]", N9 CPS (in) "Cable power status. This terminal is normally connected to cable power through a 400-kohm resistor. This circuit drives an internal comparator that detects the presence of cable power. [see datasheet]"
part C pins: A3 TESTM (in) "Test control. This input is used in the manufacturing test of the XIO2213B. For normal use, this terminal must be pulled high through a 1-kohm resistor to VDD.", B3 PD (in) "Power down. A high on this terminal turns off all internal circuitry,except the cable-active monitor circuits that control the CNA output. [see datasheet]", B6 BMODE (in) "Beta mode. This terminal determines the PHY-section/LLC-section interface connection protocol. [see datasheet]", B7 VREG_PD (in) "Voltage regulator power-down input. When asserted logic high, this pin will power-down the internal 3.3- to 1.95V regulator.For single 3. [see datasheet]", C12 ~{GRST} (in) "Global power reset. This reset brings all of the XIO2213B internal link registers to their default states. This should be a one-time power-on reset. [see datasheet]", G12 SCL (io) "Serial-bus clock. This signal is used as a serial bus clock when a pullup is detected on SDA or when the SBDETECT bit is set in the serial bus control and status register. [see datasheet]", H11 SDA (io) "Serial-bus data. This signal is used as serial bus data when a pullup is detected on SDA or when the SBDETECT bit is set in the serial bus control and status register. [see datasheet]", K4 GPIO5 (io) "General-purpose I/O 5. This terminal functions as a GPIO controlled by bit 5 (GPIO5_DIR) in the GPIO control register (see Section 4.60). [see datasheet]", L2 GPIO2 (io) "General-purpose I/O 2. This terminal functions as a GPIO controlled by bit 2 (GPIO2_DIR) in the GPIO control register (see Section 4.60). [see datasheet]", L4 GPIO3 (io) "General-purpose I/O 3. This terminal functions as a GPIO controlled by bit 3 (GPIO3_DIR) in the GPIO control register (see Section 4.60). [see datasheet]", L5 GPIO7 (io) "General-purpose I/O 7. This terminal functions as a GPIO controlled by bit 7 (GPIO7_DIR) in the GPIO control register (see Section 4.60). [see datasheet]", L9 CYCLEOUT (out) "Cycle out. This terminal provides an 8-kHz cycle timer synchronization signal. If not implemented, this terminal should be left unconnected.", M2 GPIO0 (io) "General-purpose I/O 0. This terminal functions as a GPIO controlled by bit 0 (GPIO0_DIR) in the GPIO control register (see Section 4.60). [see datasheet]", M3 GPIO4 (io) "General-purpose I/O 4. This terminal functions as a GPIO controlled by bit 4 (GPIO4_DIR) in the GPIO control register (see Section 4.60). [see datasheet]", M6 GPIO6 (io) "General-purpose I/O 6. This terminal functions as a GPIO controlled by bit 6 (GPIO6_DIR) in the GPIO control register (see Section 4.60). [see datasheet]", M8 ~{OHCI_PME} (out) "OHCI power-management event. This is an optional signal that can be used by a device to request a change in the device or system power state. This signal must be enabled by software.", M10 SE (in) "Test control. This input is used in the manufacturing test of the XIO2213B. For normal use, this terminal must be pulled low either through a 1-kohm resistor to GND or directly to GND.", N1 GPIO1 (io) "General-purpose I/O 1. This terminal functions as a GPIO controlled by bit 1 (GPIO1_DIR) in the GPIO control register (see Section 4.60). [see datasheet]", N10 SM (in) "Test control. This input is used in the manufacturing test of the XIO2213B. For normal use, this terminal must be pulled low either through a 1-kohm resistor to GND or directly to GND."
part D pins: A1 VDDA_33 (power) "3.3-V analog power for the link. This supply terminal is separated from the other power terminals internal to the device to provide noise isolation.", B4 VDDA_15 (power) "1.5-V analog power for the link", B5 VDDA_15 (power) "1.5-V analog power for the link", B9 VDD_33_COMB (power) "Internal 3.3-V main power output for external bypass capacitor filtering   Caution: Do not use this terminal to supply external power to other devices.", B10 VDD_33_COM_IO (power) "Internal 3.3-V IO power output for external bypass capacitor filtering   Caution: Do not use this terminal to supply external power to other devices.", B11 VDD_15_COMB (power) "Internal 1.5-V main power output for external bypass capacitor filtering   Caution: Do not use this terminal to supply external power to other devices.", C4 VDDA_15 (power) "1.5-V analog power for the link", C5 VDDA_15 (power) "1.5-V analog power for the link", C7 VDD_15 (power) "1.5-V digital core power for the link", C8 VDDA_33 (power) "3.3-V analog power for the link. This supply terminal is separated from the other power terminals internal to the device to provide noise isolation.", C9 VDD_33_AUX (power) "This terminal is connected to VSS through a pulldown resistor,since the XIO2213B does not support auxiliary power.", D8 DVDD_CORE (power) "Digital 1.95-V circuit power for the PHY. A combination of high-frequency decoupling capacitors near each terminal is suggested, such as paralleled 0.1 mF and 0.001 mF. [see datasheet]", D9 DVDD_CORE (power) "Digital 1.95-V circuit power for the PHY. A combination of high-frequency decoupling capacitors near each terminal is suggested, such as paralleled 0.1 mF and 0.001 mF. [see datasheet]", D10 VDD_33 (power) "3.3-V digital I/O power for the link", E4 DVDD_33 (power) "3.3-V digital I/O power for the PHY", E10 AVDD_33 (power) "3.3-V analog power for the PHY", F10 AVDD_33 (power) "3.3-V analog power for the PHY", H3 VDD_15 (power) "1.5-V digital core power for the link", H9 VDD_15 (power) "1.5-V digital core power for the link", H10 AVDD_33 (power) "3.3-V analog power for the PHY", J3 VDD_15 (power) "1.5-V digital core power for the link", J9 VDD_15 (power) "1.5-V digital core power for the link", J10 AVDD_33 (power) "3.3-V analog power for the PHY", K3 VDD_33 (power) "3.3-V digital I/O power for the link", K5 DVDD_33 (power) "3.3-V digital I/O power for the PHY", K6 DVDD_33 (power) "3.3-V digital I/O power for the PHY", K8 VDD_33 (power) "3.3-V digital I/O power for the link", K9 DVDD_CORE (power) "Digital 1.95-V circuit power for the PHY. A combination of high-frequency decoupling capacitors near each terminal is suggested, such as paralleled 0.1 mF and 0.001 mF. [see datasheet]", L3 VDD_33 (power) "3.3-V digital I/O power for the link", L6 VDD_15 (power) "1.5-V digital core power for the link", L8 VDD_33 (power) "3.3-V digital I/O power for the link", M4 AVDD_33 (power) "3.3-V analog power for the PHY", N6 PLLVDD_CORE (power) "PLL 1.95-V circuit power for the PHY. A combination of high-frequency decoupling capacitors near each terminal is suggested, such as paralleled 0.1 mF and 0.001 mF. [see datasheet]", N7 PLLVDD_33 (power) "PLL 3.3-V circuit power for the PHY. This supply terminal is separated from the other power terminals internal to the device to provide noise isolation. [see datasheet]"
part E pins: C6 VSSA_PCIE (power) "Analog ground for PCIe function", C10 RSVD (in) "Must be connected to VSS.", D4 VSSA (power) "Analog ground for link", D5 VSSA_PCIE (power) "Analog ground for PCIe function", D6 VSSA_PCIE (power) "Analog ground for PCIe function", D7 VSSA (power) "Analog ground for link", D12 RSVD (in) "Must be connected to VSS.", E5 GND (power) "Ground. These terminals must be tied together to the low-impedance circuit-board ground plane.", E6 VSSA_PCIE (power) "Analog ground for PCIe function", E7 VSS (power) "Digital ground for link", E8 VSS (power) "Ground. These terminals must be tied together to the low-impedance circuit-board ground plane.", E9 VSSA (power) "Analog ground for link", F4 GND (power) "Ground. These terminals must be tied together to the low-impedance circuit-board ground plane.", F5 GND (power) "Ground. These terminals must be tied together to the low-impedance circuit-board ground plane.", F6 GND (power) "Ground. These terminals must be tied together to the low-impedance circuit-board ground plane.", F7 GND (power) "Ground. These terminals must be tied together to the low-impedance circuit-board ground plane.", F8 GND (power) "Ground. These terminals must be tied together to the low-impedance circuit-board ground plane.", F9 GND (power) "Ground. These terminals must be tied together to the low-impedance circuit-board ground plane.", F11 RSVD (in) "Must be connected to VSS.", G4 GND (power) "Ground. These terminals must be tied together to the low-impedance circuit-board ground plane.", G5 GND (power) "Ground. These terminals must be tied together to the low-impedance circuit-board ground plane.", G6 GND (power) "Ground. These terminals must be tied together to the low-impedance circuit-board ground plane.", G7 GND (power) "Ground. These terminals must be tied together to the low-impedance circuit-board ground plane.", G8 GND (power) "Ground. These terminals must be tied together to the low-impedance circuit-board ground plane.", G9 GND (power) "Ground. These terminals must be tied together to the low-impedance circuit-board ground plane.", G10 GND (power) "Ground. These terminals must be tied together to the low-impedance circuit-board ground plane.", H4 GND (power) "Ground. These terminals must be tied together to the low-impedance circuit-board ground plane.", H5 GND (power) "Ground. These terminals must be tied together to the low-impedance circuit-board ground plane.", H6 GND (power) "Ground. These terminals must be tied together to the low-impedance circuit-board ground plane.", H7 GND (power) "Ground. These terminals must be tied together to the low-impedance circuit-board ground plane.", H8 GND (power) "Ground. These terminals must be tied together to the low-impedance circuit-board ground plane.", J4 GND (power) "Ground. These terminals must be tied together to the low-impedance circuit-board ground plane.", J5 GND (power) "Ground. These terminals must be tied together to the low-impedance circuit-board ground plane.", J6 GND (power) "Ground. These terminals must be tied together to the low-impedance circuit-board ground plane.", J7 GND (power) "Ground. These terminals must be tied together to the low-impedance circuit-board ground plane.", J8 GND (power) "Ground. These terminals must be tied together to the low-impedance circuit-board ground plane.", K7 GND (power) "Ground. These terminals must be tied together to the low-impedance circuit-board ground plane.", L7 GND (power) "Ground. These terminals must be tied together to the low-impedance circuit-board ground plane.", M9 RSVD (in) "Must be connected to VSS.", N4 PLLGND (power) "PLL circuit ground. This terminal must be tied to the low-impedance circuit-board ground plane."
part F pins: D11 RSVD "Reserved, do not connect to external signals.", E11 RSVD "Reserved, do not connect to external signals.", F12 RSVD "Reserved, do not connect to external signals.", J11 RSVD "Reserved, do not connect to external signals.", K10 RSVD "Reserved, do not connect to external signals.", K11 RSVD "Reserved, do not connect to external signals.", K12 RSVD "Reserved, do not connect to external signals.", L10 RSVD "Reserved, do not connect to external signals.", L11 RSVD "Reserved, do not connect to external signals.", L12 RSVD "Reserved, do not connect to external signals.", M11 RSVD "Reserved, do not connect to external signals.", M12 RSVD "Reserved, do not connect to external signals.", N11 RSVD "Reserved, do not connect to external signals.", N12 RSVD "Reserved, do not connect to external signals.", N13 RSVD "Reserved, do not connect to external signals."